# EAGLE library part 7111S1615A01LF (library epic)
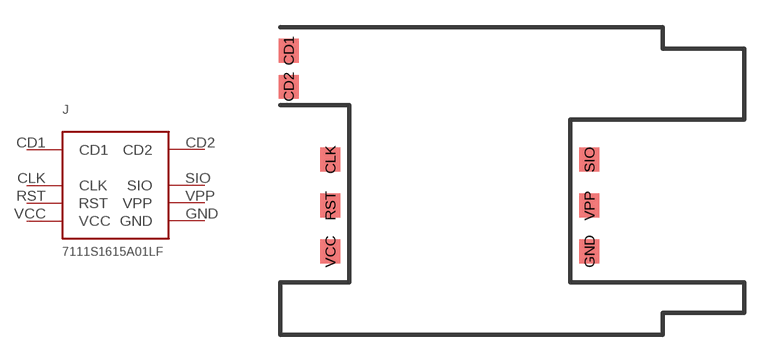
[diagram p23: symbol with the pads of 7111S1615A01LF; footprint 7111S1615A01LF]

Designator prefix J

## 7111S1615A01LF  [7111S1615A01LF]
CD1  CD1
CD2  CD2
CLK  CLK
GND  GND
RST  RST
SIO  SIO
VCC  VCC
VPP  VPP

## Footprint 7111S1615A01LF (pad centres in mm)
smd 1.1 x 1.32: CD1 -9.454,8.557; CD2 -9.454,6.557; CLK -7.154,2.537; GND 7.146,-2.543; RST -7.154,-0.003; SIO 7.146,2.537; VCC -7.154,-2.543; VPP 7.146,-0.003